# EAGLE library part PC1622 (library potenciometry)
Dvojité potenciometry s kovovým pouzdrem 0,5W
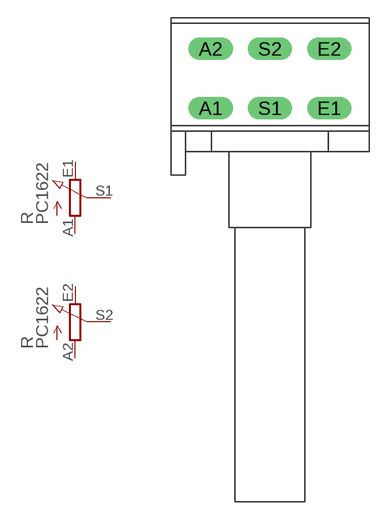
[diagram p0: symbol with the pads of PC1622; footprint PC1622]

Designator prefix R; gates G$1=POT_EU2 G$2=POT_EU2

## PC1622  [PC1622]
A1  G$1:A  pas
A2  G$2:A  pas
E1  G$1:E  pas
E2  G$2:E  pas
S1  G$1:S  pas
S2  G$2:S  pas

## Footprint PC1622 (pad centres in mm)
drill 1.27 long: A1 -5.08,0; A2 -5.08,5.08; E1 5.08,0; E2 5.08,5.08; S1 0,0; S2 0,5.08